# EAGLE library part ATMEGA328-PU (library ATMEGA328-PU)
Atmel ATmega48/88/168/328 AVR Microcontroller
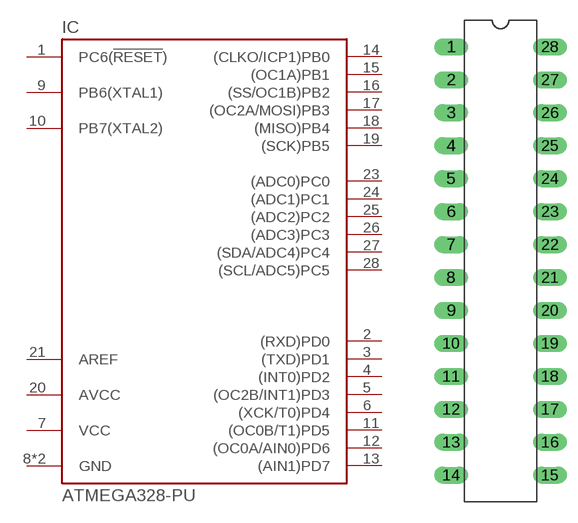
[diagram p0: symbol with the pads of DIL28; footprint DIL28]

Designator prefix IC

## ATMEGA328-PU (Availability: Unavailable; Description: ATmega Series 20 MHz 32 KB Flash 2 KB SRAM 8-Bit Microcontroller - DIP-28; MF: Microchip; MP: ATMEGA328-PU; Package: PDIP-28 Microchip; Price: None)  [DIL28]
1  PC6(!RESET!)
2  (RXD)PD0
3  (TXD)PD1
4  (INT0)PD2
5  (OC2B/INT1)PD3
6  (XCK/T0)PD4
7  VCC  pwr
8  GND  pwr
9  PB6(XTAL1)
10  PB7(XTAL2)
11  (OC0B/T1)PD5
12  (OC0A/AIN0)PD6
13  (AIN1)PD7
14  (CLKO/ICP1)PB0
15  (OC1A)PB1
16  (SS/OC1B)PB2
17  (OC2A/MOSI)PB3
18  (MISO)PB4
19  (SCK)PB5
20  AVCC  pwr
21  AREF  pas
22  GND  pwr
23  (ADC0)PC0
24  (ADC1)PC1
25  (ADC2)PC2
26  (ADC3)PC3
27  (SDA/ADC4)PC4
28  (SCL/ADC5)PC5

## Footprint DIL28 (pad centres in mm)
Dual In Line 0.3 inch
drill 0.813 long: 1 -3.81,16.51; 2 -3.81,13.97; 3 -3.81,11.43; 4 -3.81,8.89; 5 -3.81,6.35; 6 -3.81,3.81; 7 -3.81,1.27; 8 -3.81,-1.27; 9 -3.81,-3.81; 10 -3.81,-6.35; 11 -3.81,-8.89; 12 -3.81,-11.43; 13 -3.81,-13.97; 14 -3.81,-16.51; 15 3.81,-16.51; 16 3.81,-13.97; 17 3.81,-11.43; 18 3.81,-8.89; 19 3.81,-6.35; 20 3.81,-3.81; 21 3.81,-1.27; 22 3.81,1.27; 23 3.81,3.81; 24 3.81,6.35; 25 3.81,8.89; 26 3.81,11.43; 27 3.81,13.97; 28 3.81,16.51